# Altium footprint library rj45.PcbLib: 1 footprints
Each footprint in its own frame and in the unit in brackets; x right, y up, seen from the top. Pads: shape width x height; smd on the part's side, far side on the other; paste and mask are expansions set on the pad; w line width, h text height; cw(c..) or ccw(c..) is an arc to the next point about the centre after c.
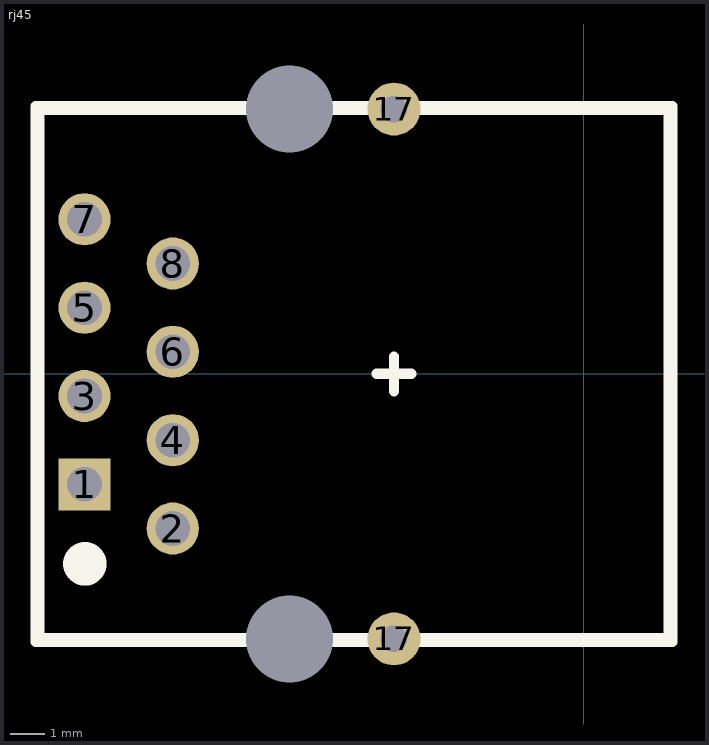
[diagram p0: the footprint, top view; thin cyan lines are the x and y axes]

## rj45 [mm]
pads (12):
  rect 1.5x1.5 hole 1: 1(-14.361,-3.175)
  round 1.5 hole 1: 2(-11.821,-4.445) 3(-14.361,-0.635) 4(-11.821,-1.905) 5(-14.361,1.905) 6(-11.821,0.635) 7(-14.361,4.445) 8(-11.821,3.175)
  round 1.524 hole 0.762: 17(-5.461,-7.62) 17(-5.461,7.616)
  rect 0x0 hole 2.5 unplated: ""(-8.461,-7.62) ""(-8.461,7.616)
Top Overlay:
  circle w1: c-14.351,-5.461 r0.125
  lines w0.3: -5.961,0 -4.961,0 ; -5.461,-0.5 -5.461,0.5 ; -15.661,-7.6 2.439,-7.6 ; -15.661,-7.6 -15.661,7.6 ; -15.661,-7.6 2.439,-7.6 ; -15.661,-7.6 -15.661,7.6 ; -15.661,7.6 2.439,7.6 ; -15.661,7.6 2.439,7.6 ; 2.439,-7.6 2.439,7.6 ; 2.439,-7.6 2.439,7.6 ; -15.761,-7.7 2.539,-7.7 2.539,7.7 -15.761,7.7 -15.761,-7.7
3D body "c-215877-1-p-3d.stp": height 11.55, standoff -3.15, extent -15.651,-7.59 2.449,7.61